# Altium footprint library SamacSys.PcbLib: 3 footprints
Each footprint in its own frame and in the unit in brackets; x right, y up, seen from the top. Pads: shape width x height; smd on the part's side, far side on the other; paste and mask are expansions set on the pad; w line width, h text height; cw(c..) or ccw(c..) is an arc to the next point about the centre after c.
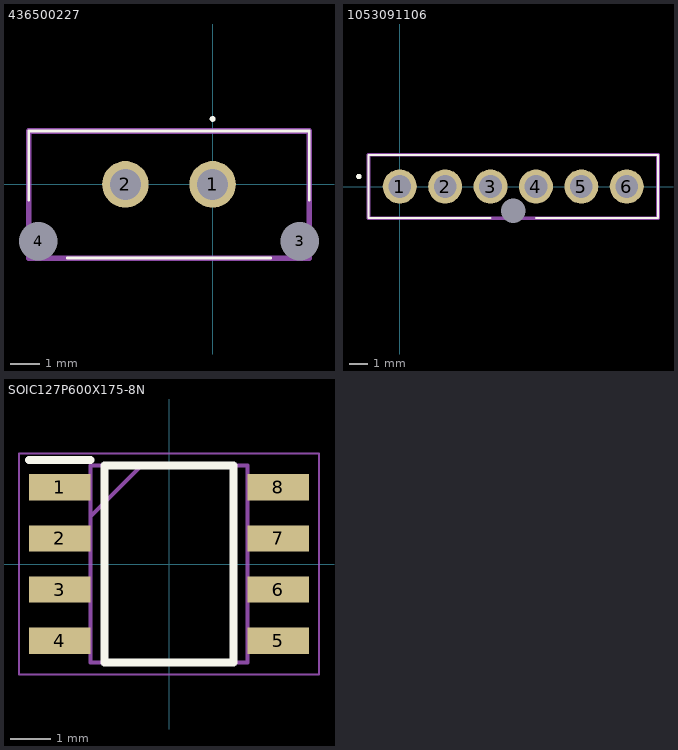
[diagram p0: the footprints below, top view; thin cyan lines are the x and y axes]

## 436500227 [mm]
pads (4):
  round 1.605 hole 1.07: 1(0,0) 2(-3,0)
  round 0.66 hole 1.32 unplated: 3(3,-1.96) 4(-6,-1.96)
Top Overlay:
  lines w0.1: -6.325,-0.54 -6.325,1.83 3.325,1.83 3.325,-0.54 ; -5,-2.54 2,-2.54 ; 0,2.2 cw(c0,2.25) 0,2.3 cw(c0,2.25) 0,2.2
Mechanical 13:
  lines w0.2: -6.325,-2.54 3.325,-2.54 3.325,1.83 -6.325,1.83 -6.325,-2.54
3D body "43650-0227.stp": height 10.25, standoff -5, extent -6.556,-2.54 3.56,1.83

## 1053091106 [mm]
pads (7):
  round 1.875 hole 1.25: 1(0,0) 2(2.5,0) 3(5,0) 4(7.5,0) 5(10,0) 6(12.5,0)
  round 0.675 hole 1.35 unplated: MH1(6.25,-1.34)
Top Overlay:
  lines w0.1: 5,-1.74 -1.72,-1.74 -1.72,0 -1.72,1.74 14.22,1.74 14.22,-1.74 7.5,-1.74
  lines w0.2: -2.25,0.5 ccw(c-2.25,0.55) -2.25,0.6 ccw(c-2.25,0.55) -2.25,0.5
Mechanical 13:
  lines w0.2: -1.72,-1.74 14.22,-1.74 14.22,1.74 -1.72,1.74 -1.72,-1.74
3D body "105309-1106.stp": height 10.81, standoff -5, extent -1.72,-1.914 14.22,1.74

## SOIC127P600X175-8N [mm]
pads (8):
  rect 1.525x0.65 smd: 1(-2.712,1.905) 2(-2.712,0.635) 3(-2.712,-0.635) 4(-2.712,-1.905) 5(2.712,-1.905) 6(2.712,-0.635) 7(2.712,0.635) 8(2.712,1.905)
Top Overlay:
  lines w0.2: -3.475,2.58 -1.95,2.58 ; -1.6,-2.45 1.6,-2.45 1.6,2.45 -1.6,2.45 -1.6,-2.45
Mechanical 13:
  lines w0.1: -1.95,1.18 -0.68,2.45 ; -1.95,-2.45 1.95,-2.45 1.95,2.45 -1.95,2.45 -1.95,-2.45
Mechanical 15:
  lines w0.05: -3.725,-2.75 3.725,-2.75 3.725,2.75 -3.725,2.75 -3.725,-2.75
3D body "NE555DR.stp": height 1.75, standoff 0, extent -3,-2.45 3,2.45